# Altium schematic symbol library display-hp.SCHLIB: 43 symbols
Pins are listed as number, name and electrical type; pins without a type are passive.

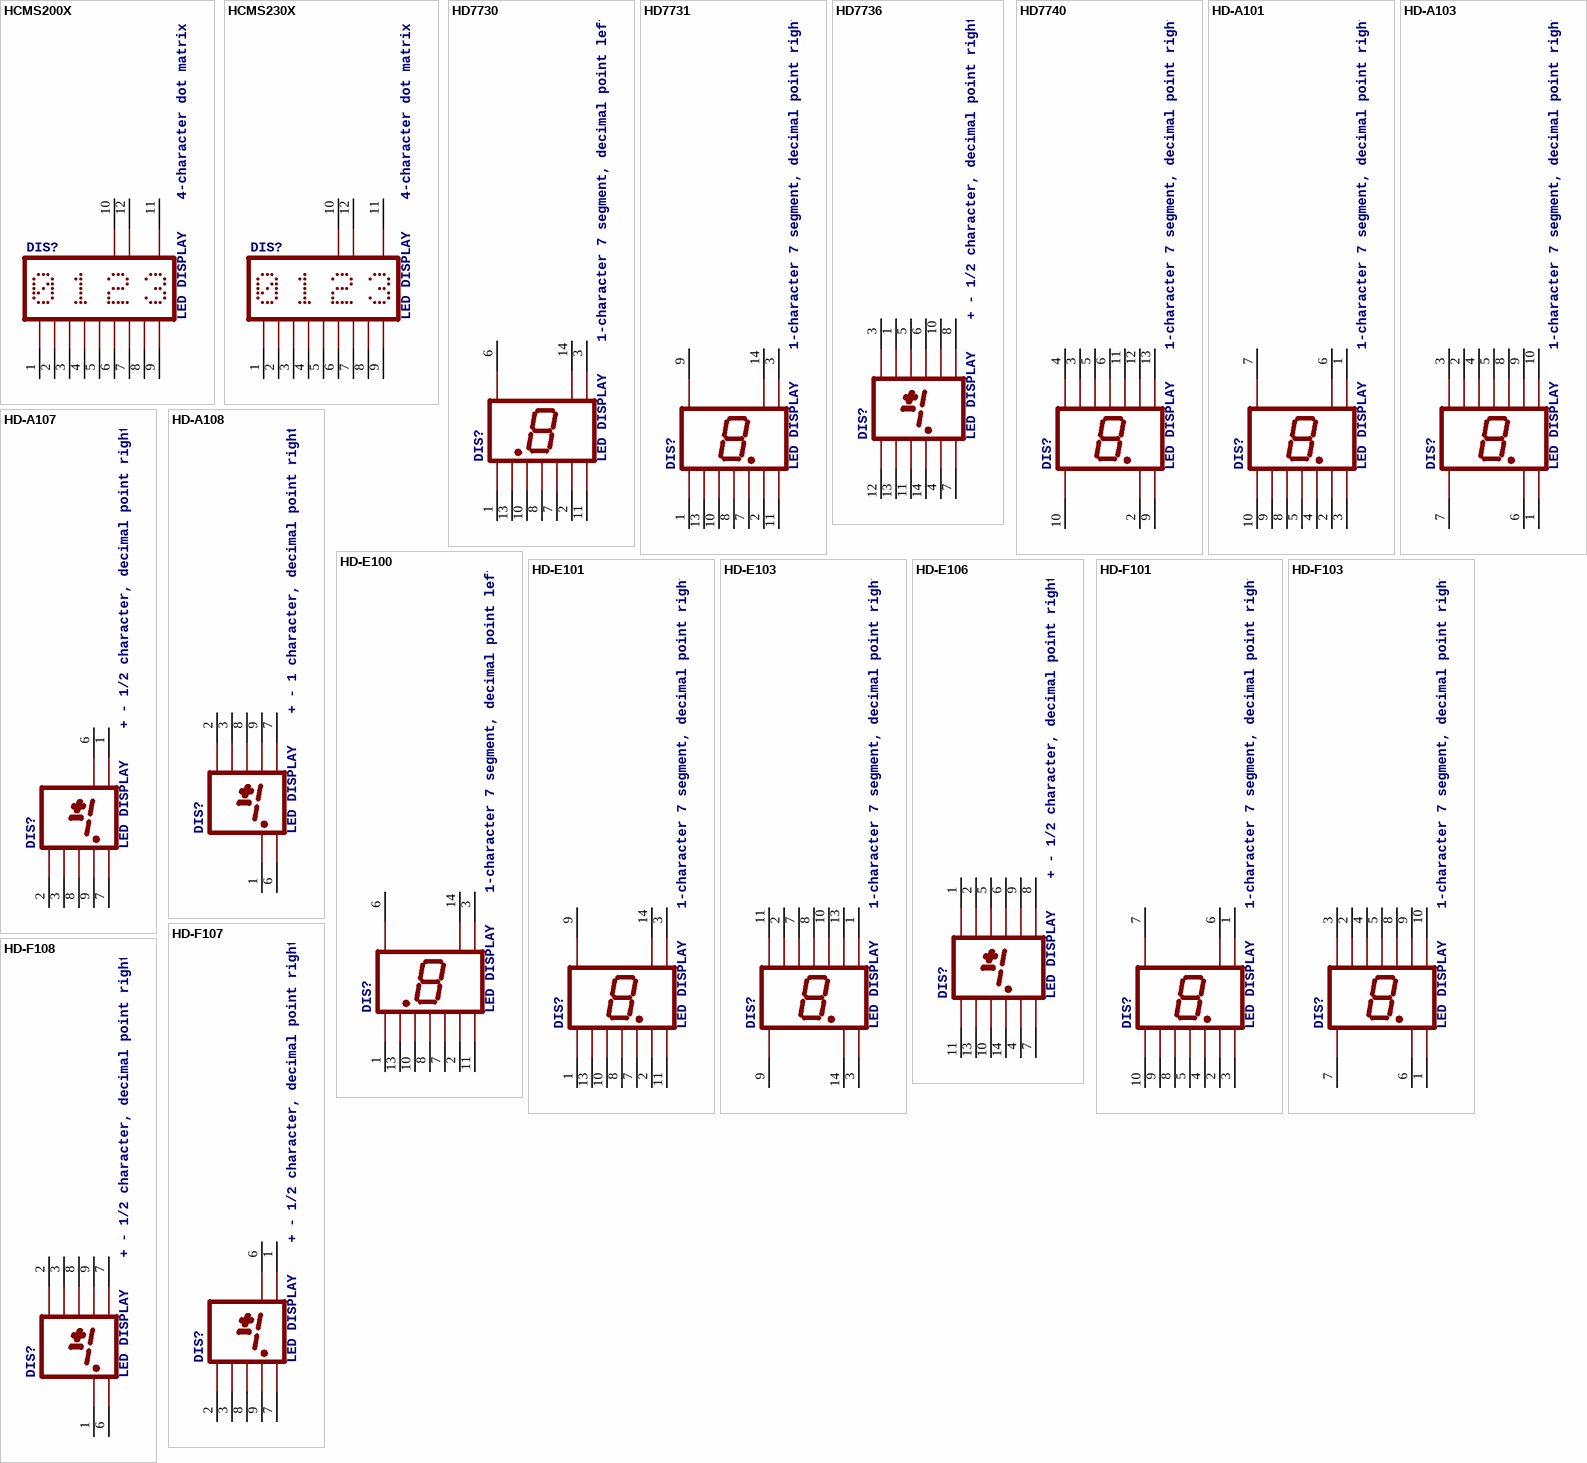
[diagram p0: symbols HCMS200X to HD-F108]

## HCMS200X
designator DIS?, comment LED DISPLAY    4-character dot matrix
OC_FARNELL: unknown; OC_NEWARK: unknown
footprint HCMS200X
pins: 1 COL1, 2 COL2, 3 COL3, 4 COL4, 5 COL5, 6 I-CO, 7 OUT, 8 VB, 9 VDD (power), 10 CLK, 11 GND (power), 12 IN

## HCMS230X
designator DIS?, comment LED DISPLAY    4-character dot matrix
OC_FARNELL: unknown; OC_NEWARK: unknown
footprint HCMS230X
pins: 1 COL1, 2 COL2, 3 COL3, 4 COL4, 5 COL5, 6 I-CO, 7 OUT, 8 VB, 9 VDD (power), 10 CLK, 11 GND (power), 12 IN

## HD7730
designator DIS?, comment LED DISPLAY    1-character 7 segment, decimal point left
OC_FARNELL: unknown; OC_NEWARK: unknown
footprint HD7730
pins: 1 A, 2 F, 3 CA, 6 DP, 7 E, 8 D, 10 C, 11 G, 13 B, 14 CA@1

## HD7731
designator DIS?, comment LED DISPLAY    1-character 7 segment, decimal point right
OC_FARNELL: unknown; OC_NEWARK: unknown
footprint HD7730
pins: 1 A, 2 F, 3 CA, 7 E, 8 D, 9 DP, 10 C, 11 G, 13 B, 14 CA@1

## HD7736
designator DIS?, comment LED DISPLAY    + - 1/2 character, decimal point right
OC_FARNELL: unknown; OC_NEWARK: unknown
footprint HD7736
pins: 1 AD, 3 CD, 4 CC, 5 CE, 6 AE, 7 AC, 8 ADP, 10 CDP, 11 CB, 12 CA, 13 AA, 14 AB

## HD7740
designator DIS?, comment LED DISPLAY    1-character 7 segment, decimal point right
OC_FARNELL: unknown; OC_NEWARK: unknown
footprint HD7730
pins: 2 CC, 3 F, 4 G, 5 E, 6 D, 9 CC@1, 10 DP, 11 C, 12 B, 13 A

## HD-A101
designator DIS?, comment LED DISPLAY    1-character 7 segment, decimal point right
OC_FARNELL: unknown; OC_NEWARK: unknown
footprint HDSP-A
pins: 1 CA, 2 F, 3 G, 4 E, 5 D, 6 CA@1, 7 DP, 8 C, 9 B, 10 A

## HD-A103
designator DIS?, comment LED DISPLAY    1-character 7 segment, decimal point right
OC_FARNELL: unknown; OC_NEWARK: unknown
footprint HDSP-A
pins: 1 CC@1, 2 F, 3 G, 4 E, 5 D, 6 CC, 7 DP, 8 C, 9 B, 10 A

## HD-A107
designator DIS?, comment LED DISPLAY    + - 1/2 character, decimal point right
OC_FARNELL: unknown; OC_NEWARK: unknown
footprint HDSP-C
pins: 1 CA, 2 +, 3 -, 6 CA@1, 7 DP, 8 C, 9 B

## HD-A108
designator DIS?, comment LED DISPLAY    + - 1 character, decimal point right
OC_FARNELL: unknown; OC_NEWARK: unknown
footprint HDSP-C
pins: 1 CC, 2 +, 3 -, 6 CC@1, 7 DP, 8 C, 9 B

## HD-E100
designator DIS?, comment LED DISPLAY    1-character 7 segment, decimal point left
OC_FARNELL: unknown; OC_NEWARK: unknown
footprint HDSP-I
pins: 1 A, 2 F, 3 CA, 6 DP, 7 E, 8 D, 10 C, 11 G, 13 B, 14 CA@1

## HD-E101
designator DIS?, comment LED DISPLAY    1-character 7 segment, decimal point right
OC_FARNELL: unknown; OC_NEWARK: unknown
footprint HDSP-I
pins: 1 A, 2 F, 3 CA, 7 E, 8 D, 9 DP, 10 C, 11 G, 13 B, 14 CA@1

## HD-E103
designator DIS?, comment LED DISPLAY    1-character 7 segment, decimal point right
OC_FARNELL: unknown; OC_NEWARK: unknown
footprint HDSP-I
pins: 1 A, 2 F, 3 CC@1, 7 E, 8 D, 9 DP, 10 C, 11 G, 13 B, 14 CC

## HD-E106
designator DIS?, comment LED DISPLAY    + - 1/2 character, decimal point right
OC_FARNELL: unknown; OC_NEWARK: unknown
footprint HDSP-L
pins: 1 CD, 2 AD, 4 CC, 5 CE, 6 AE, 7 AC, 8 ADP, 9 CDP, 10 CB, 11 CA, 13 AA, 14 AB

## HD-F101
designator DIS?, comment LED DISPLAY    1-character 7 segment, decimal point right
OC_FARNELL: unknown; OC_NEWARK: unknown
footprint HDSP-E
pins: 1 CA, 2 F, 3 G, 4 E, 5 D, 6 CA@1, 7 DP, 8 C, 9 B, 10 A

## HD-F103
designator DIS?, comment LED DISPLAY    1-character 7 segment, decimal point right
OC_FARNELL: unknown; OC_NEWARK: unknown
footprint HDSP-E
pins: 1 CC@1, 2 F, 3 G, 4 E, 5 D, 6 CC, 7 DP, 8 C, 9 B, 10 A

## HD-F107
designator DIS?, comment LED DISPLAY    + - 1/2 character, decimal point right
OC_FARNELL: unknown; OC_NEWARK: unknown
footprint HDSP-G
pins: 1 CA, 2 +, 3 -, 6 CA@1, 7 DP, 8 C, 9 B

## HD-F108
designator DIS?, comment LED DISPLAY    + - 1/2 character, decimal point right
OC_FARNELL: unknown; OC_NEWARK: unknown
footprint HDSP-G
pins: 1 CC, 2 +, 3 -, 6 CC@1, 7 DP, 8 C, 9 B

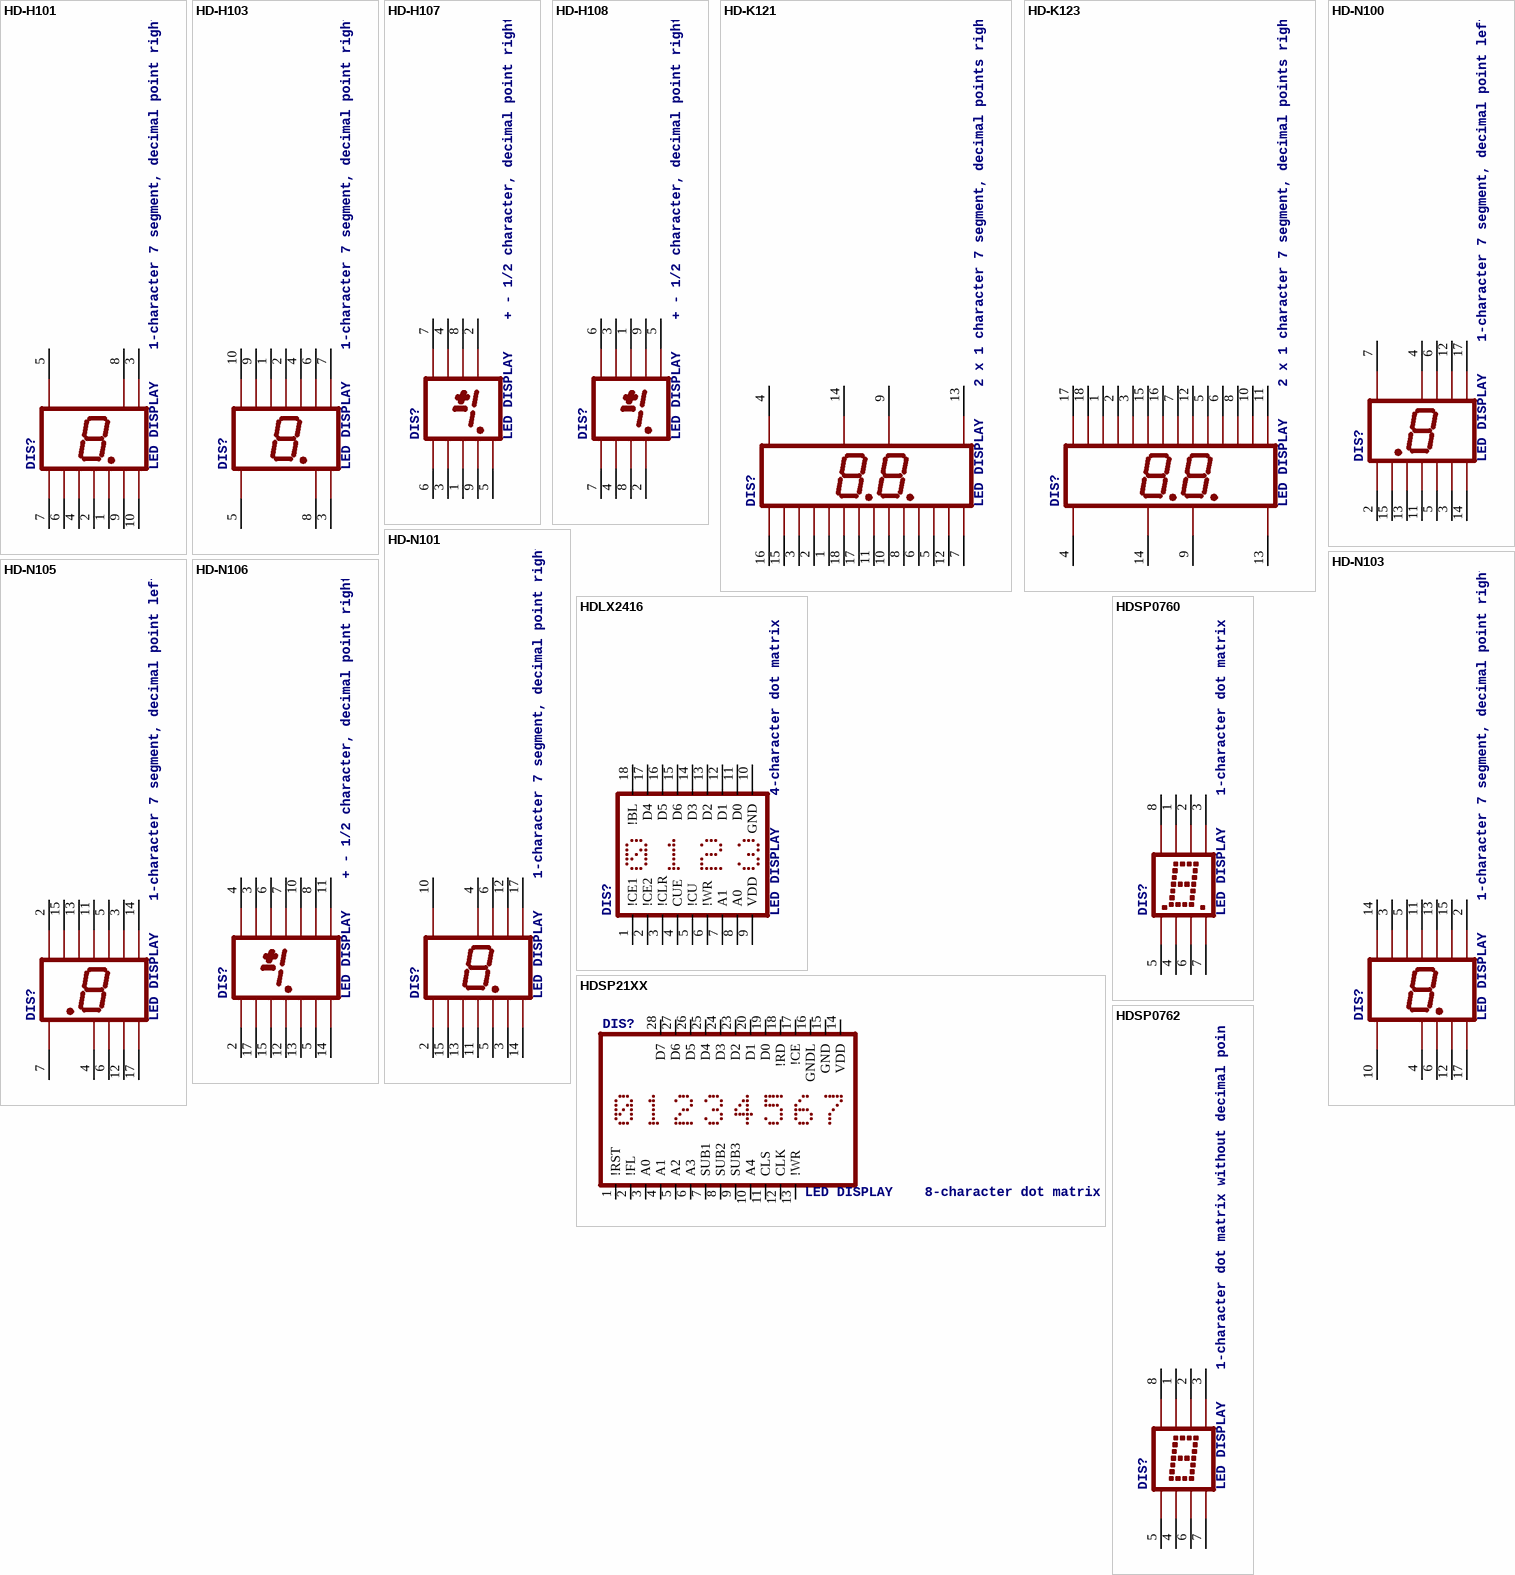
[diagram p1: symbols HD-H101 to HDSP0762]

## HD-H101
designator DIS?, comment LED DISPLAY    1-character 7 segment, decimal point right
OC_FARNELL: unknown; OC_NEWARK: unknown
footprint HDSP-M
pins: 1 E, 2 D, 3 CA, 4 C, 5 DP, 6 B, 7 A, 8 CA@1, 9 F, 10 G

## HD-H103
designator DIS?, comment LED DISPLAY    1-character 7 segment, decimal point right
OC_FARNELL: unknown; OC_NEWARK: unknown
footprint HDSP-M
pins: 1 E, 2 D, 3 CC@1, 4 C, 5 DP, 6 B, 7 A, 8 CC, 9 F, 10 G

## HD-H107
designator DIS?, comment LED DISPLAY    + - 1/2 character, decimal point right
OC_FARNELL: unknown; OC_NEWARK: unknown
footprint HDSP-O
pins: 1 CC, 2 ACD@1, 3 CB, 4 AABDP@1, 5 CDP, 6 CA, 7 AABDP, 8 ACD, 9 CD

## HD-H108
designator DIS?, comment LED DISPLAY    + - 1/2 character, decimal point right
OC_FARNELL: unknown; OC_NEWARK: unknown
footprint HDSP-O
pins: 1 AC, 2 CCD@1, 3 AB, 4 CABDP@1, 5 ADP, 6 AA, 7 CABDP, 8 CCD, 9 AD

## HD-K121
designator DIS?, comment LED DISPLAY    2 x 1 character 7 segment, decimal points right
OC_FARNELL: unknown; OC_NEWARK: unknown
footprint HDSP-R
pins: 1 E1, 2 D1, 3 C1, 4 DP1, 5 E2, 6 D2, 7 G2, 8 C2, 9 DP2, 10 B2, 11 A2, 12 F2, 13 CA2, 14 CA1, 15 B1, 16 A1, 17 G1, 18 F1

## HD-K123
designator DIS?, comment LED DISPLAY    2 x 1 character 7 segment, decimal points right
OC_FARNELL: unknown; OC_NEWARK: unknown
footprint HDSP-R
pins: 1 E1, 2 D1, 3 C1, 4 DP1, 5 E2, 6 D2, 7 G2, 8 C2, 9 DP2, 10 B2, 11 A2, 12 F2, 13 CC2, 14 CC1, 15 B1, 16 A1, 17 G1, 18 F1

## HD-N100
designator DIS?, comment LED DISPLAY    1-character 7 segment, decimal point left
OC_FARNELL: unknown; OC_NEWARK: unknown
footprint HDSP-Q
pins: 2 A, 3 F, 4 CA, 5 E, 6 CA@1, 7 DP, 11 D, 12 CA@2, 13 C, 14 G, 15 B, 17 CA@3

## HD-N101
designator DIS?, comment LED DISPLAY    1-character 7 segment, decimal point right
OC_FARNELL: unknown; OC_NEWARK: unknown
footprint HDSP-Q
pins: 2 A, 3 F, 4 CA, 5 E, 6 CA@1, 10 DP, 11 D, 12 CA@2, 13 C, 14 G, 15 B, 17 CA@3

## HD-N103
designator DIS?, comment LED DISPLAY    1-character 7 segment, decimal point right
OC_FARNELL: unknown; OC_NEWARK: unknown
footprint HDSP-Q
pins: 2 A, 3 F, 4 CC, 5 E, 6 CC@1, 10 DP, 11 D, 12 CC@2, 13 C, 14 G, 15 B, 17 CC@3

## HD-N105
designator DIS?, comment LED DISPLAY    1-character 7 segment, decimal point left
OC_FARNELL: unknown; OC_NEWARK: unknown
footprint HDSP-Q
pins: 2 A, 3 F, 4 CC, 5 E, 6 CC@1, 7 DP, 11 D, 12 CC@2, 13 C, 14 G, 15 B, 17 CC@3

## HD-N106
designator DIS?, comment LED DISPLAY    + - 1/2 character, decimal point right
OC_FARNELL: unknown; OC_NEWARK: unknown
footprint HDSP-W
pins: 2 CA, 3 AD, 4 CD, 5 CC, 6 CE, 7 AE, 8 CDP, 10 ADP, 11 CDP@1, 12 CB, 13 AB, 14 AC, 15 AA, 17 CA@1

## HDLX2416
designator DIS?, comment LED DISPLAY    4-character dot matrix
OC_FARNELL: unknown; OC_NEWARK: unknown
footprint HDLX2416
pins: 1 !CE1, 2 !CE2, 3 !CLR, 4 CUE, 5 !CU, 6 !WR, 7 A1, 8 A0, 9 VDD (power), 10 GND (power), 11 D0, 12 D1, 13 D2, 14 D3, 15 D6, 16 D5, 17 D4, 18 !BL

## HDSP21XX
designator DIS?, comment LED DISPLAY    8-character dot matrix
MF: AGILENT TECHNOLOGIES; MPN: HDSP-2179; OC_FARNELL: 1175588; OC_NEWARK: 06B1344
footprint HDSP21XX
pins: 1 !RST, 2 !FL, 3 A0, 4 A1, 5 A2, 6 A3, 7 SUB1, 8 SUB2, 9 SUB3, 10 A4, 11 CLS, 12 CLK, 13 !WR, 14 VDD (power), 15 GND (power), 16 GNDL (power), 17 !CE, 18 !RD, 19 D0, 20 D1, 23 D2, 24 D3, 25 D4, 26 D5, 27 D6, 28 D7

## HDSP0760
designator DIS?, comment LED DISPLAY    1-character dot matrix
MF: AGILENT TECHNOLOGIES; MPN: HDSP-0760; OC_FARNELL: 9869875; OC_NEWARK: 39K9788
footprint HD-0760
pins: 1 I2, 2 I4, 3 I8, 4 DP, 5 LE, 6 GND (power), 7 VCC (power), 8 I1

## HDSP0762
designator DIS?, comment LED DISPLAY    1-character dot matrix without decimal point
MF: AGILENT TECHNOLOGIES; MPN: HDSP-0762; OC_FARNELL: 9869883; OC_NEWARK: 39K9789
footprint HD-0762
pins: 1 I2, 2 I4, 3 I8, 4 BC, 5 LE, 6 GND (power), 7 VCC (power), 8 I1

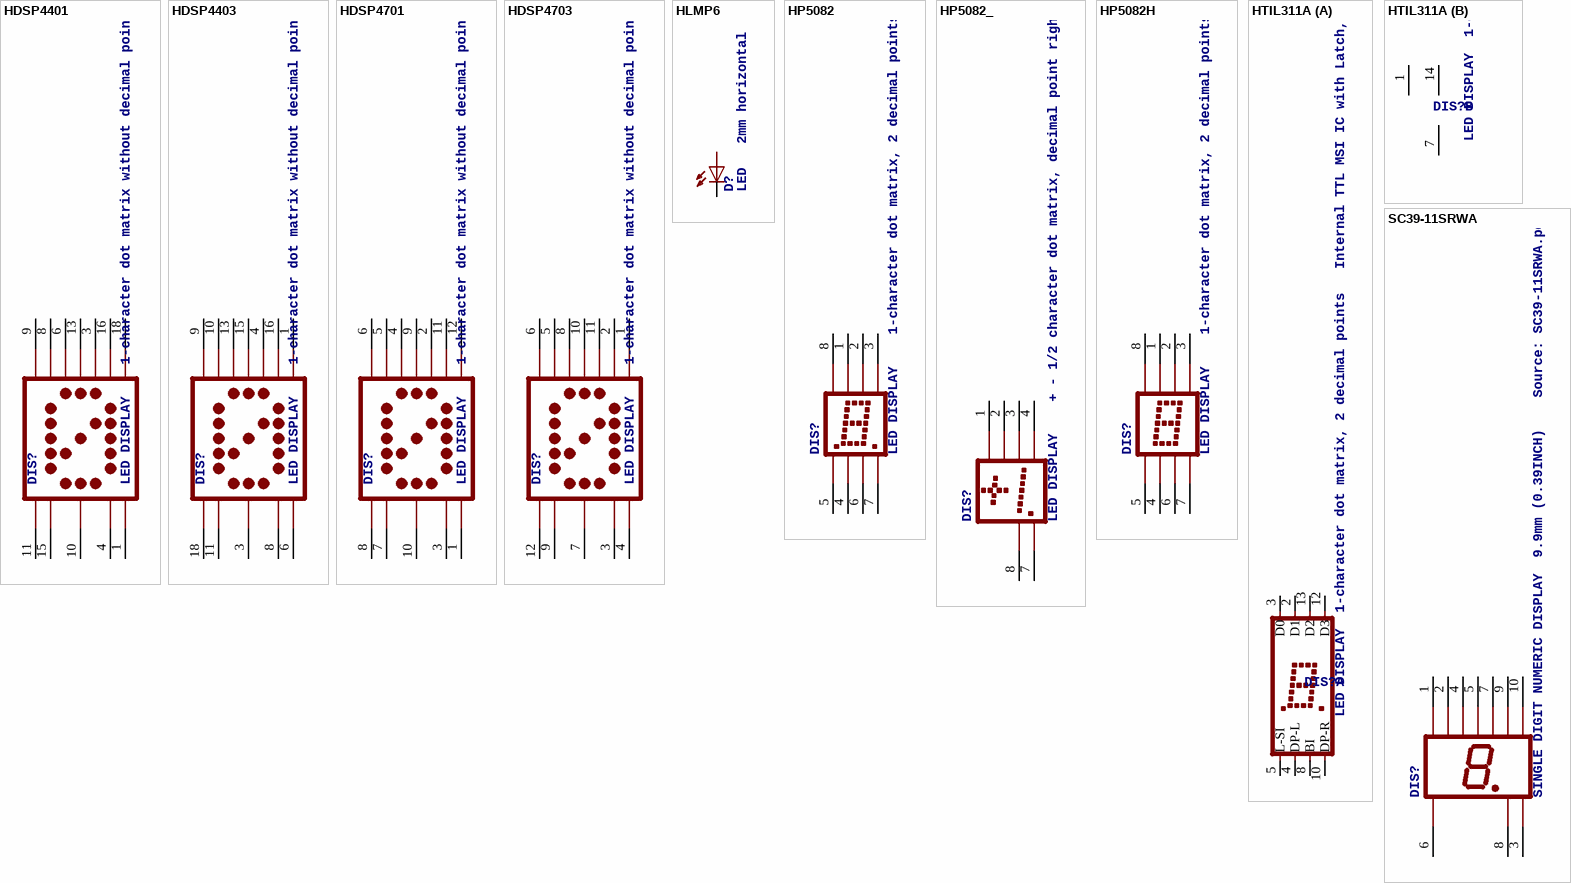
[diagram p2: symbols HDSP4401 to SC39-11SRWA]

## HDSP4401
designator DIS?, comment LED DISPLAY    1-character dot matrix without decimal point
OC_FARNELL: unknown; OC_NEWARK: unknown
footprint HDSP44
pins: 1 C1C, 3 R3A, 4 C2C, 6 R5A, 8 R6A, 9 R7A, 10 C3C, 11 C5C, 13 R4A, 15 C4C, 16 R2A, 18 R1A

## HDSP4403
designator DIS?, comment LED DISPLAY    1-character dot matrix without decimal point
OC_FARNELL: unknown; OC_NEWARK: unknown
footprint HDSP44
pins: 1 R1C, 3 C3A, 4 R3C, 6 C1A, 8 C2A, 9 R7C, 10 R6C, 11 C4A, 13 R5C, 15 R4C, 16 R2C, 18 C5A

## HDSP4701
designator DIS?, comment LED DISPLAY    1-character dot matrix without decimal point
OC_FARNELL: unknown; OC_NEWARK: unknown
footprint HDSP47
pins: 1 C1C, 2 R3A, 3 C2C, 4 R5A, 5 R6A, 6 R7A, 7 C4C, 8 C5C, 9 R4A, 10 C3C, 11 R2A, 12 R1A

## HDSP4703
designator DIS?, comment LED DISPLAY    1-character dot matrix without decimal point
OC_FARNELL: unknown; OC_NEWARK: unknown
footprint HDSP47
pins: 1 R1C, 2 R2C, 3 C2A, 4 C1A, 5 R6C, 6 R7C, 7 C3A, 8 R5C, 9 C4A, 10 R4C, 11 R3C, 12 C5A

## HLMP6
designator D?, comment LED   2mm horizontal
MF: AGILENT TECHNOLOGIES; MPN: HLMP-6500; OC_FARNELL: 1652490; OC_NEWARK: 40K0088
footprint HLMP6
pins: A, K

## HP5082
designator DIS?, comment LED DISPLAY    1-character dot matrix, 2 decimal points
OC_FARNELL: unknown; OC_NEWARK: unknown
footprint HP5082
pins: 1 I2, 2 I4, 3 I8, 4 DP, 5 LE, 6 GND (power), 7 VCC (power), 8 I1

## HP5082_
designator DIS?, comment LED DISPLAY    + - 1/2 character dot matrix, decimal point right
OC_FARNELL: unknown; OC_NEWARK: unknown
footprint HP5082_
pins: 1 +, 2 1A, 3 1B, 4 DP, 7 VCC (power), 8 -+

## HP5082H
designator DIS?, comment LED DISPLAY    1-character dot matrix, 2 decimal points
OC_FARNELL: unknown; OC_NEWARK: unknown
footprint HP5082
pins: 1 I2, 2 I4, 3 I8, 4 BC, 5 LE, 6 GND (power), 7 VCC (power), 8 I1

## HTIL311A
designator DIS?, comment LED DISPLAY  1-character dot matrix, 2 decimal points   Internal TTL MSI IC with Latch, Decoder, and Driver Source: http://www.taosinc.com .. til311-e6.pdf
OC_FARNELL: unknown; OC_NEWARK: unknown
footprint HTIL311A
part A pins: 2 D1, 3 D0, 4 DP-L, 5 L-SI, 8 BI, 10 DP-R, 12 D3, 13 D2
part B pins: 1 LEDSUP, 7 GND (power), 14 VCC (power)

## SC39-11SRWA
designator DIS?, comment SINGLE DIGIT NUMERIC DISPLAY  9.9mm (0.39INCH)    Source: SC39-11SRWA.pdf
OC_FARNELL: unknown; OC_NEWARK: unknown
footprint HDSP-E
pins: 1 G, 2 F, 3 CC@1, 4 E, 5 D, 6 DP, 7 C, 8 CC, 9 B, 10 A